# EAGLE library part TXS0206 (library Explore Labs EAGLE Library)
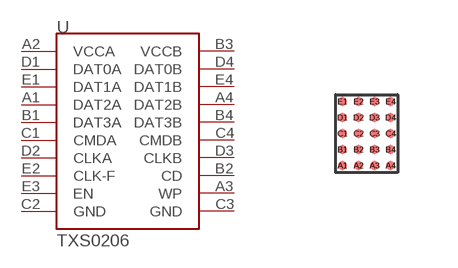
[diagram p24: symbol with the pads of BGA-20-YFP; footprint BGA-20-YFP]

Designator prefix -

## TXS0206BGA  [BGA-20-YFP]
A1  DAT2A
A2  VCCA
A3  WP
A4  DAT2B
B1  DAT3A
B2  CD
B3  VCCB
B4  DAT3B
C1  CMDA
C2  GND
C3  GND
C4  CMDB
D1  DAT0A
D2  CLKA
D3  CLKB
D4  DAT0B
E1  DAT1A
E2  CLK-F
E3  EN
E4  DAT1B

## Footprint BGA-20-YFP (pad centres in mm)
Based on Non Solder Mask Defined (NSDM) Pads From TI OMAP Beagleboard design guidelines for a 0.4mm PoP, it is suggested to use Solder Mask Defined (SMD) pads (even though IPC suggests NSMD pads). So, to change pads in this design from NSMD to SMD, chcange pad size from 0.225 mm x 0.225 mm to 0.325 mm x 0.325 mm and the Solder Stop mask tStop from 0.325 mm diameter (0.1625 mm radius) to 0.225 mm (0.1125 mm radius) Reference 1: http://www.ti.com/lit/an/spraav1b/spraav1b.pdf Reference 2: http://blog.screamingcircuits.com/2010/06/extra-fine-pitch-bga-pads.html
smd 0.225 x 0.225: A1 -0.6,-0.8; A2 -0.2,-0.8; A3 0.2,-0.8; A4 0.6,-0.8; B1 -0.6,-0.4; B2 -0.2,-0.4; B3 0.2,-0.4; B4 0.6,-0.4; C1 -0.6,0; C2 -0.2,0; C3 0.2,0; C4 0.6,0; D1 -0.6,0.4; D2 -0.2,0.4; D3 0.2,0.4; D4 0.6,0.4; E1 -0.6,0.8; E2 -0.2,0.8; E3 0.2,0.8; E4 0.6,0.8